# Altium footprint library QFN65P400X400X100-17N.PcbLib: 1 footprints
Each footprint in its own frame and in the unit in brackets; x right, y up, seen from the top. Pads: shape width x height; smd on the part's side, far side on the other; paste and mask are expansions set on the pad; w line width, h text height; cw(c..) or ccw(c..) is an arc to the next point about the centre after c.
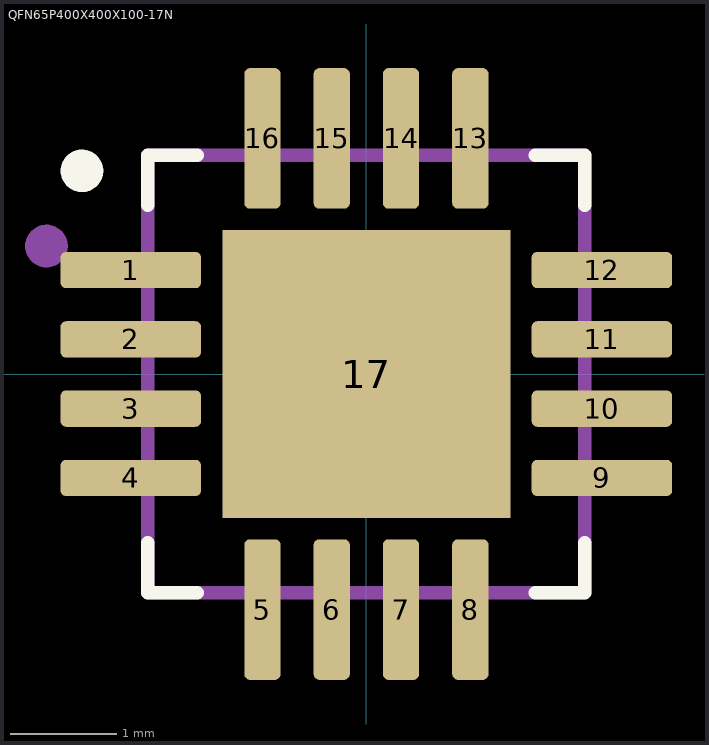
[diagram p0: the footprint, top view; thin cyan lines are the x and y axes]

## QFN65P400X400X100-17N [mm]
pads (17):
  rrect30% 1.318x0.34 smd: 1(-2.209,0.975) 2(-2.209,0.325) 3(-2.209,-0.325) 4(-2.209,-0.975) 9(2.209,-0.975) 10(2.209,-0.325) 11(2.209,0.325) 12(2.209,0.975)
  rrect30% 0.34x1.318 smd: 5(-0.975,-2.209) 6(-0.325,-2.209) 7(0.325,-2.209) 8(0.975,-2.209) 13(0.975,2.209) 14(0.325,2.209) 15(-0.325,2.209) 16(-0.975,2.209)
  rect 2.7x2.7 smd paste-0.497: 17(0,0)
Top Overlay:
  circle w0.2: c-2.667,1.905 r0.1
  lines w0.127: -2.05,-1.584 -2.05,-2.05 -1.584,-2.05 ; -2.05,1.584 -2.05,2.05 -1.584,2.05 ; 1.584,-2.05 2.05,-2.05 2.05,-1.584 ; 1.584,2.05 2.05,2.05 2.05,1.584
Mechanical 13:
  circle w0.2: c-3,1.2 r0.1
  lines w0.127: -2.05,-2.05 -2.05,2.05 2.05,2.05 2.05,-2.05 -2.05,-2.05
3D body "step_temp.STEP": height 1, standoff 0, extent -2,-2 2,2